# EAGLE library part LM386M-1/NOPB (library LM386M-1_NOPB)
Check availability <https://pricing.snapeda.com/parts/LM386M-1/NOPB/Texas%20Instruments/view-part?ref=eda>
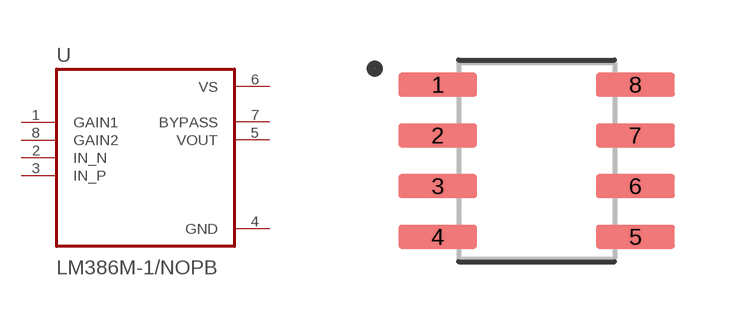
[diagram p0: symbol with the pads of SOIC127P599X175-8N; footprint SOIC127P599X175-8N]

Designator prefix U

## LM386M-1/NOPB (Availability: In Stock; Description: 700-mW, mono, 5- to 18-V, analog input Class-AB audio amplifier; MF: Texas Instruments; MP: LM386M-1/NOPB; Package: SOIC-8 Texas Instruments; Price: None; Purchase-URL: https://pricing.snapeda.com/search/part/LM386M-1/NOPB/?ref=eda)  [SOIC127P599X175-8N]
1  GAIN1  in
2  IN_N  in
3  IN_P  in
4  GND  pwr
5  VOUT  out
6  VS  pwr
7  BYPASS  out
8  GAIN2  in

## Footprint SOIC127P599X175-8N (pad centres in mm)
smd 1.97 x 0.6: 1 -2.47,1.905; 2 -2.47,0.635; 3 -2.47,-0.635; 4 -2.47,-1.905; 5 2.47,-1.905; 6 2.47,-0.635; 7 2.47,0.635; 8 2.47,1.905